# EAGLE library part ABRACON-CON-ARJU21A (library duraTerm)
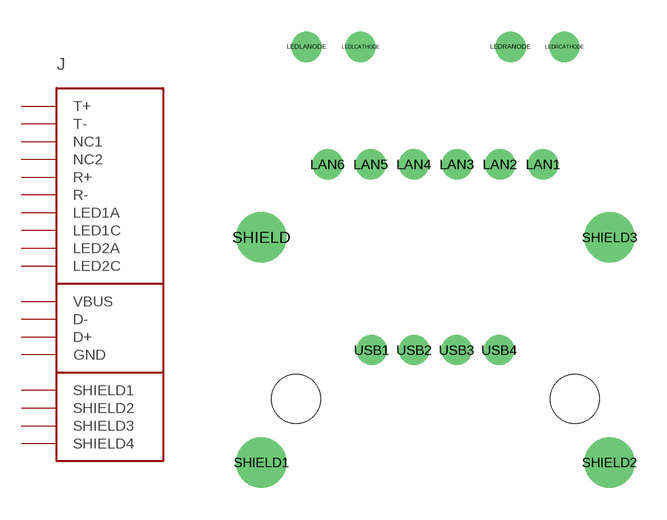
[diagram p7: symbol with the pads of ABRACON-CON-ARJU21A; footprint ABRACON-CON-ARJU21A]

Designator prefix J

## ABRACON-CON-ARJU21A  [ABRACON-CON-ARJU21A]
LAN1  T+
LAN2  T-
LAN3  NC1
LAN4  NC2
LAN5  R+
LAN6  R-
LEDLANODE  LED1A
LEDLCATHODE  LED1C
LEDRANODE  LED2A
LEDRCATHODE  LED2C
SHIELD  SHIELD1
SHIELD1  SHIELD2
SHIELD2  SHIELD3
SHIELD3  SHIELD4
USB1  VBUS
USB2  D-
USB3  D+
USB4  GND

## Footprint ABRACON-CON-ARJU21A (pad centres in mm)
drill 0.92: LAN1 5.075,14.05; LAN2 3.045,14.05; LAN3 1.015,14.05; LAN4 -1.015,14.05; LAN5 -3.045,14.05; LAN6 -5.075,14.05; LEDLANODE -6.07,19.57; LEDLCATHODE -3.53,19.57; LEDRANODE 3.53,19.57; LEDRCATHODE 6.07,19.57; USB1 -3,5.3; USB2 -1,5.3; USB3 1,5.3; USB4 3,5.3
drill 1.58: SHIELD -8.2,10.6; SHIELD1 -8.2,0; SHIELD2 8.2,0; SHIELD3 8.2,10.6
hole 2.3 at -6.57,3
hole 2.3 at 6.57,3